# EAGLE library part CAP1208 (library pimoroni-ics)
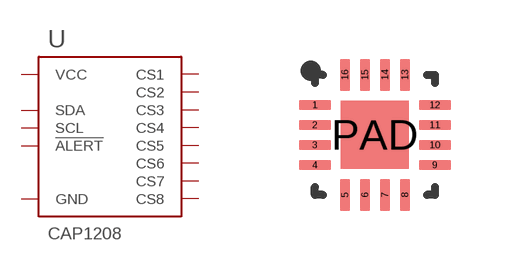
[diagram p24: symbol with the pads of QFN-16; footprint QFN-16]

Designator prefix U

## CAP1208  [QFN-16]
1  !ALERT
2  SDA
3  SCL
4  VCC
7  GND
8  GND
9  CS8
10  CS7
11  CS6
12  CS5
13  CS4
14  CS3
15  CS2
16  CS1
PAD  GND

## Footprint QFN-16 (pad centres in mm)
smd 0.8 x 0.25: 1 -1.5,0.75; 2 -1.5,0.25; 3 -1.5,-0.25; 4 -1.5,-0.75; 9 1.5,-0.75; 10 1.5,-0.25; 11 1.5,0.25; 12 1.5,0.75
smd 0.25 x 0.8: 5 -0.75,-1.5; 6 -0.25,-1.5; 7 0.25,-1.5; 8 0.75,-1.5; 13 0.75,1.5; 14 0.25,1.5; 15 -0.25,1.5; 16 -0.75,1.5
smd 1.7 x 1.7: PAD 0,0